# Altium schematic symbol library jlcpcb_2025_04_capacitors_basic.schlib: 88 symbols (part 2 of 4)
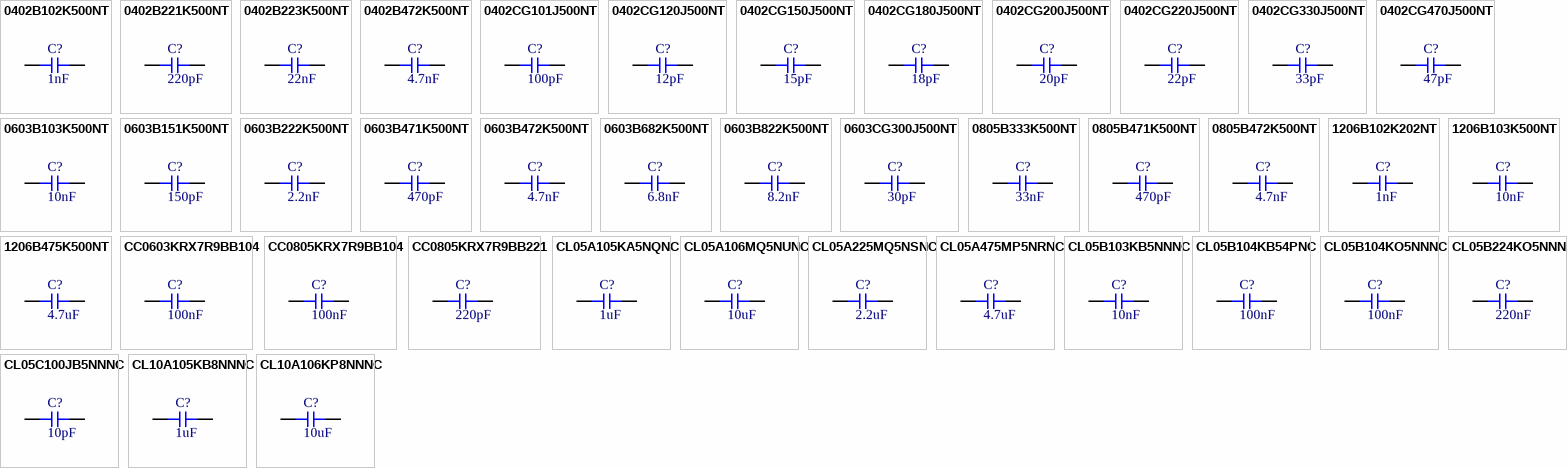
[diagram p3: symbols 0402B102K500NT to CL10A106KP8NNNC]

## CL05B224KO5NNNC
designator C?  Capacitance: 220nF  (hidden comment: *)
Capacitor, Ceramic (MLCC), 220nF, ±10%, 16V, X7R, ±10%, SMD 0402; Manufacturer: Samsung Electro-Mechanics; Manufacturer Part Number: CL05B224KO5NNNC; Temperature Rating: -55°C ~ 125°C; Capacitance @ 1V DC Bias: 229.732nF; Capacitance @ 1.2V DC Bias: 229.338nF; Capacitance @ 1.35V DC Bias: 228.985nF; Capacitance @ 1.5V DC Bias: 228.566nF; Capacitance @ 1.8V DC Bias: 227.476nF; Capacitance @ 2.5V DC Bias: 222.749nF; Capacitance @ 3.3V DC Bias: 215.025nF; Capacitance @ 3.7V DC Bias: 210.612nF; Capacitance @ 4.2V DC Bias: 204.867nF; Capacitance @ 5V DC Bias: 195.190nF; Capacitance @ 9V DC Bias: 144.998nF; Capacitance @ 12V DC Bias: 114.994nF; Capacitance @ 15V DC Bias: 89.389nF; Impedance (0V Bias) @ 100Hz: 8.15E+03Ω; Impedance (0V Bias) @ 500Hz: 1.66E+03Ω; Impedance (0V Bias) @ 1kHz: 835Ω; Impedance (0V Bias) @ 5kHz: 170Ω; Impedance (0V Bias) @ 10kHz: 85.4Ω; Impedance (0V Bias) @ 50kHz: 17.4Ω; Impedance (0V Bias) @ 100kHz: 8.74Ω; Impedance (0V Bias) @ 500kHz: 1.77Ω; Impedance (0V Bias) @ 1MHz: 0.89Ω; Impedance (0V Bias) @ 5MHz: 0.172Ω; Impedance (0V Bias) @ 10MHz: 0.074Ω; Impedance (0V Bias) @ 50MHz: 0.0718Ω; Impedance (0V Bias) @ 100MHz: 0.118Ω; Impedance (0V Bias) @ 500MHz: 0.465Ω; Impedance (0V Bias) @ 1GHz: 0.864Ω; Impedance (0V Bias) @ 2GHz: 2.05Ω; Impedance (0V Bias) @ 5GHz: 4.07Ω; Impedance (16V Bias) @ 100Hz: 2.13E+04Ω; Impedance (16V Bias) @ 500Hz: 4.31E+03Ω; Impedance (16V Bias) @ 1kHz: 2.17E+03Ω; Impedance (16V Bias) @ 5kHz: 438Ω; Impedance (16V Bias) @ 10kHz: 220Ω; Impedance (16V Bias) @ 50kHz: 44.5Ω; Impedance (16V Bias) @ 100kHz: 22.4Ω; Impedance (16V Bias) @ 500kHz: 4.51Ω; Impedance (16V Bias) @ 1MHz: 2.25Ω; Impedance (16V Bias) @ 5MHz: 0.489Ω; Impedance (16V Bias) @ 10MHz: 0.231Ω; Impedance (16V Bias) @ 50MHz: 0.0518Ω; Impedance (16V Bias) @ 100MHz: 0.12Ω; Impedance (16V Bias) @ 500MHz: 0.46Ω; Impedance (16V Bias) @ 1GHz: 0.861Ω; Impedance (16V Bias) @ 2GHz: 2.07Ω; Impedance (16V Bias) @ 5GHz: 4.08Ω; Package Size: 0402; JLCPCB Basic Part: Yes; JLCPCB Part Number: C16772; Supplier 1: LCSC; Category: Capacitors - MLCC; Supplier Part Number 1: C16772; Tolerance: ±10%; Voltage Rating: 16V; Temperature Coefficient: X7R; RoHS: Yes; ComponentLink1Description: Datasheet; ComponentLink1URL: https://wmsc.lcsc.com/wmsc/upload/file/pdf/v2/lcsc/2304140030_Samsung-Electro-Mechanics-CL05B224KO5NNNC_C16772.pdf; ComponentLink2Description: JLCPCB Part URL; ComponentLink2URL: https://jlcpcb.com/partdetail/C16772; ComponentLink3Description: LCSC Part URL; ComponentLink3URL: https://lcsc.com/product-detail/Multilayer-Ceramic-Capacitors-MLCC---SMD-SMT_Samsung-Electro-Mechanics-Samsung-Electro-Mechanics-CL05B224KO5NNNC-_C16772.html; ComponentLink4Description: Samsung Component Library; ComponentLink4URL: https://weblib.samsungsem.com/mlcc/mlcc-ec.do?partNumber=CL05B224KO5NNN
footprint CAP-0402 (0402 (1005M) Capacitor)
pins: 1, 2

## CL05C100JB5NNNC
designator C?  Capacitance: 10pF  (hidden comment: *)
Capacitor, Ceramic (MLCC), 10pF, ±5%, 50V, C0G, ±5%, SMD 0402; Manufacturer: Samsung Electro-Mechanics; Manufacturer Part Number: CL05C100JB5NNNC; Temperature Rating: -55°C ~ 125°C; Impedance (0V Bias) @ 100MHz: 159Ω; Impedance (0V Bias) @ 500MHz: 31Ω; Impedance (0V Bias) @ 1GHz: 14.2Ω; Impedance (0V Bias) @ 2GHz: 2.29Ω; Impedance (0V Bias) @ 5GHz: 4.97Ω; Package Size: 0402; JLCPCB Basic Part: Yes; JLCPCB Part Number: C32949; Supplier 1: LCSC; Category: Capacitors - MLCC; Supplier Part Number 1: C32949; Tolerance: ±5%; Voltage Rating: 50V; Temperature Coefficient: C0G; RoHS: Yes; ComponentLink1Description: Datasheet; ComponentLink1URL: https://wmsc.lcsc.com/wmsc/upload/file/pdf/v2/lcsc/2304140030_Samsung-Electro-Mechanics-CL05C100JB5NNNC_C32949.pdf; ComponentLink2Description: JLCPCB Part URL; ComponentLink2URL: https://jlcpcb.com/partdetail/C32949; ComponentLink3Description: LCSC Part URL; ComponentLink3URL: https://lcsc.com/product-detail/Multilayer-Ceramic-Capacitors-MLCC---SMD-SMT_Samsung-Electro-Mechanics-Samsung-Electro-Mechanics-CL05C100JB5NNNC_C32949.html; ComponentLink4Description: Samsung Component Library; ComponentLink4URL: https://weblib.samsungsem.com/mlcc/mlcc-ec.do?partNumber=CL05C100JB5NNN
footprint CAP-0402 (0402 (1005M) Capacitor)
pins: 1, 2

## CL10A105KB8NNNC
designator C?  Capacitance: 1uF  (hidden comment: *)
Capacitor, Ceramic (MLCC), 1uF, ±10%, 50V, X5R, ±10%, SMD 0603; Manufacturer: Samsung Electro-Mechanics; Manufacturer Part Number: CL10A105KB8NNNC; Temperature Rating: -55°C ~ 85°C; Capacitance @ 1V DC Bias: 1.054uF; Capacitance @ 1.2V DC Bias: 1.044uF; Capacitance @ 1.35V DC Bias: 1.035uF; Capacitance @ 1.5V DC Bias: 1.027uF; Capacitance @ 1.8V DC Bias: 1.007uF; Capacitance @ 2.5V DC Bias: 0.947uF; Capacitance @ 3.3V DC Bias: 0.865uF; Capacitance @ 3.7V DC Bias: 0.824uF; Capacitance @ 4.2V DC Bias: 0.773uF; Capacitance @ 5V DC Bias: 0.695uF; Capacitance @ 9V DC Bias: 0.410uF; Capacitance @ 12V DC Bias: 0.308uF; Capacitance @ 15V DC Bias: 0.231uF; Capacitance @ 24V DC Bias: 0.130uF; Capacitance @ 36V DC Bias: 0.080uF; Capacitance @ 48V DC Bias: 0.063uF; Impedance (0V Bias) @ 100Hz: 1.84E+03Ω; Impedance (0V Bias) @ 500Hz: 378Ω; Impedance (0V Bias) @ 1kHz: 191Ω; Impedance (0V Bias) @ 5kHz: 39.1Ω; Impedance (0V Bias) @ 10kHz: 19.8Ω; Impedance (0V Bias) @ 50kHz: 4.04Ω; Impedance (0V Bias) @ 100kHz: 2.04Ω; Impedance (0V Bias) @ 500kHz: 0.416Ω; Impedance (0V Bias) @ 1MHz: 0.208Ω; Impedance (0V Bias) @ 5MHz: 0.0293Ω; Impedance (0V Bias) @ 10MHz: 0.0159Ω; Impedance (0V Bias) @ 50MHz: 0.0822Ω; Impedance (0V Bias) @ 100MHz: 0.14Ω; Impedance (0V Bias) @ 500MHz: 0.54Ω; Impedance (0V Bias) @ 1GHz: 0.988Ω; Impedance (0V Bias) @ 2GHz: 2.38Ω; Impedance (0V Bias) @ 5GHz: 4.94Ω; Package Size: 0603; JLCPCB Basic Part: Yes; JLCPCB Part Number: C15849; Supplier 1: LCSC; Category: Capacitors - MLCC; Supplier Part Number 1: C15849; Tolerance: ±10%; Voltage Rating: 50V; Temperature Coefficient: X5R; RoHS: Yes; ComponentLink1Description: Datasheet; ComponentLink1URL: https://wmsc.lcsc.com/wmsc/upload/file/pdf/v2/lcsc/2304140030_Samsung-Electro-Mechanics-CL10A105KB8NNNC_C15849.pdf; ComponentLink2Description: JLCPCB Part URL; ComponentLink2URL: https://jlcpcb.com/partdetail/C15849; ComponentLink3Description: LCSC Part URL; ComponentLink3URL: https://lcsc.com/product-detail/Multilayer-Ceramic-Capacitors-MLCC---SMD-SMT_Samsung-Electro-Mechanics-Samsung-Electro-Mechanics-CL10A105KB8NNNC_C15849.html; ComponentLink4Description: Samsung Component Library; ComponentLink4URL: https://weblib.samsungsem.com/mlcc/mlcc-ec.do?partNumber=CL10A105KB8NNN
footprint CAP-0603 (0603 (1608M) Capacitor)
pins: 1, 2

## CL10A106KP8NNNC
designator C?  Capacitance: 10uF  (hidden comment: *)
Capacitor, Ceramic (MLCC), 10uF, ±10%, 10V, X5R, ±10%, SMD 0603; Manufacturer: Samsung Electro-Mechanics; Manufacturer Part Number: CL10A106KP8NNNC; Temperature Rating: -55°C ~ 85°C; Capacitance @ 1V DC Bias: 8.451uF; Capacitance @ 1.2V DC Bias: 8.084uF; Capacitance @ 1.35V DC Bias: 7.793uF; Capacitance @ 1.5V DC Bias: 7.497uF; Capacitance @ 1.8V DC Bias: 6.915uF; Capacitance @ 2.5V DC Bias: 5.691uF; Capacitance @ 3.3V DC Bias: 4.464uF; Capacitance @ 3.7V DC Bias: 3.996uF; Capacitance @ 4.2V DC Bias: 3.516uF; Capacitance @ 5V DC Bias: 2.897uF; Capacitance @ 9V DC Bias: 1.372uF; Impedance (0V Bias) @ 100Hz: 217Ω; Impedance (0V Bias) @ 500Hz: 44.6Ω; Impedance (0V Bias) @ 1kHz: 22.6Ω; Impedance (0V Bias) @ 5kHz: 4.64Ω; Impedance (0V Bias) @ 10kHz: 2.35Ω; Impedance (0V Bias) @ 50kHz: 0.481Ω; Impedance (0V Bias) @ 100kHz: 0.243Ω; Impedance (0V Bias) @ 500kHz: 0.0484Ω; Impedance (0V Bias) @ 1MHz: 0.0217Ω; Impedance (0V Bias) @ 5MHz: 0.0144Ω; Impedance (0V Bias) @ 10MHz: 0.0227Ω; Impedance (0V Bias) @ 50MHz: 0.0729Ω; Impedance (0V Bias) @ 100MHz: 0.123Ω; Impedance (0V Bias) @ 500MHz: 0.439Ω; Impedance (0V Bias) @ 1GHz: 0.788Ω; Impedance (0V Bias) @ 2GHz: 1.8Ω; Impedance (0V Bias) @ 5GHz: 3.33Ω; Impedance (10V Bias) @ 100Hz: 1.6E+03Ω; Impedance (10V Bias) @ 500Hz: 323Ω; Impedance (10V Bias) @ 1kHz: 162Ω; Impedance (10V Bias) @ 5kHz: 32.7Ω; Impedance (10V Bias) @ 10kHz: 16.4Ω; Impedance (10V Bias) @ 50kHz: 3.3Ω; Impedance (10V Bias) @ 100kHz: 1.66Ω; Impedance (10V Bias) @ 500kHz: 0.331Ω; Impedance (10V Bias) @ 1MHz: 0.161Ω; Impedance (10V Bias) @ 5MHz: 0.0215Ω; Impedance (10V Bias) @ 10MHz: 0.0228Ω; Impedance (10V Bias) @ 50MHz: 0.0759Ω; Impedance (10V Bias) @ 500MHz: 0.443Ω; Impedance (10V Bias) @ 1GHz: 0.786Ω; Impedance (10V Bias) @ 2GHz: 1.77Ω; Impedance (10V Bias) @ 5GHz: 3.28Ω; Package Size: 0603; JLCPCB Basic Part: Yes; JLCPCB Part Number: C19702; Supplier 1: LCSC; Category: Capacitors - MLCC; Supplier Part Number 1: C19702; Tolerance: ±10%; Voltage Rating: 10V; Temperature Coefficient: X5R; RoHS: Yes; ComponentLink1Description: Datasheet; ComponentLink1URL: https://wmsc.lcsc.com/wmsc/upload/file/pdf/v2/lcsc/2304140030_Samsung-Electro-Mechanics-CL10A106KP8NNNC_C19702.pdf; ComponentLink2Description: JLCPCB Part URL; ComponentLink2URL: https://jlcpcb.com/partdetail/C19702; ComponentLink3Description: LCSC Part URL; ComponentLink3URL: https://lcsc.com/product-detail/Multilayer-Ceramic-Capacitors-MLCC---SMD-SMT_Samsung-Electro-Mechanics-Samsung-Electro-Mechanics-CL10A106KP8NNNC_C19702.html; ComponentLink4Description: Samsung Component Library; ComponentLink4URL: https://weblib.samsungsem.com/mlcc/mlcc-ec.do?partNumber=CL10A106KP8NNN; Impedance (10V Bias) @ 100MHz: 0.123Ω
footprint CAP-0603 (0603 (1608M) Capacitor)
pins: 1, 2

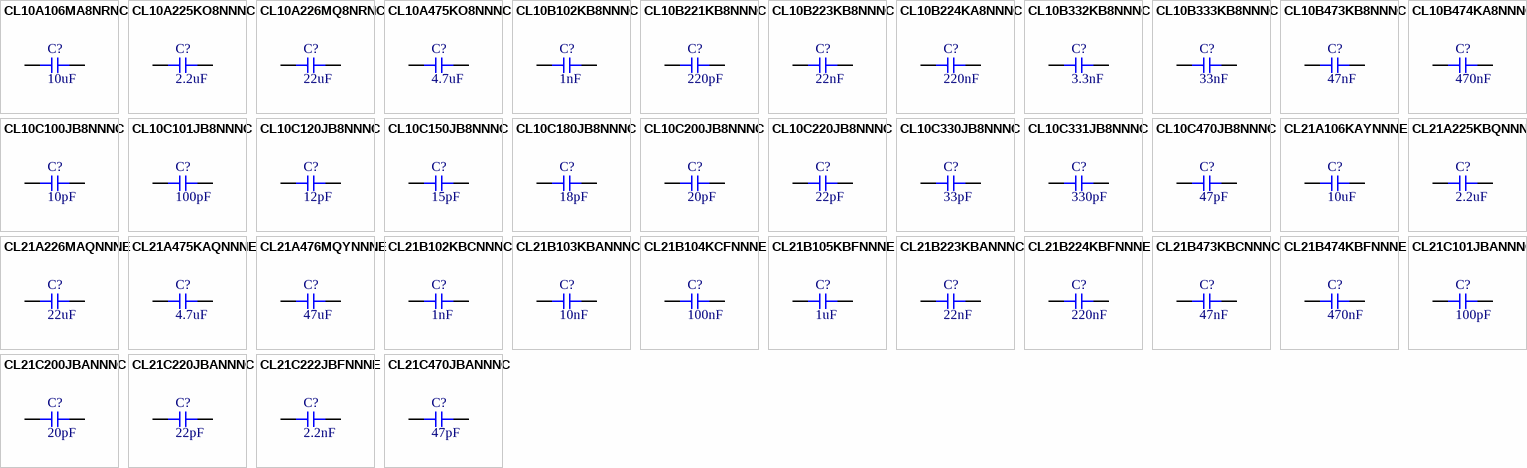
[diagram p1: symbols CL10A106MA8NRNC to CL21C470JBANNNC]

## CL10A106MA8NRNC
designator C?  Capacitance: 10uF  (hidden comment: *)
Capacitor, Ceramic (MLCC), 10uF, ±20%, 25V, X5R, ±20%, SMD 0603; Manufacturer: Samsung Electro-Mechanics; Manufacturer Part Number: CL10A106MA8NRNC; Temperature Rating: -55°C ~ 85°C; Capacitance @ 1V DC Bias: 8.964uF; Capacitance @ 1.2V DC Bias: 8.768uF; Capacitance @ 1.35V DC Bias: 8.609uF; Capacitance @ 1.5V DC Bias: 8.444uF; Capacitance @ 1.8V DC Bias: 8.099uF; Capacitance @ 2.5V DC Bias: 7.202uF; Capacitance @ 3.3V DC Bias: 6.143uF; Capacitance @ 3.7V DC Bias: 5.664uF; Capacitance @ 4.2V DC Bias: 5.128uF; Capacitance @ 5V DC Bias: 4.387uF; Capacitance @ 9V DC Bias: 2.251uF; Capacitance @ 12V DC Bias: 1.644uF; Capacitance @ 15V DC Bias: 1.206uF; Capacitance @ 24V DC Bias: 0.690uF; Impedance (0V Bias) @ 100Hz: 205Ω; Impedance (0V Bias) @ 500Hz: 41.9Ω; Impedance (0V Bias) @ 1kHz: 21.1Ω; Impedance (0V Bias) @ 5kHz: 4.31Ω; Impedance (0V Bias) @ 10kHz: 2.17Ω; Impedance (0V Bias) @ 50kHz: 0.441Ω; Impedance (0V Bias) @ 100kHz: 0.222Ω; Impedance (0V Bias) @ 500kHz: 0.0432Ω; Impedance (0V Bias) @ 1MHz: 0.0185Ω; Impedance (0V Bias) @ 5MHz: 0.0154Ω; Impedance (0V Bias) @ 10MHz: 0.0225Ω; Impedance (0V Bias) @ 50MHz: 0.0746Ω; Impedance (0V Bias) @ 100MHz: 0.129Ω; Impedance (0V Bias) @ 500MHz: 0.513Ω; Impedance (0V Bias) @ 1GHz: 0.937Ω; Impedance (0V Bias) @ 2GHz: 2.28Ω; Impedance (0V Bias) @ 5GHz: 4.61Ω; Impedance (25V Bias) @ 100Hz: 2.27E+03Ω; Impedance (25V Bias) @ 500Hz: 456Ω; Impedance (25V Bias) @ 1kHz: 229Ω; Impedance (25V Bias) @ 5kHz: 46Ω; Impedance (25V Bias) @ 10kHz: 23.1Ω; Impedance (25V Bias) @ 50kHz: 4.64Ω; Impedance (25V Bias) @ 100kHz: 2.32Ω; Impedance (25V Bias) @ 500kHz: 0.461Ω; Impedance (25V Bias) @ 1MHz: 0.223Ω; Impedance (25V Bias) @ 5MHz: 0.039Ω; Impedance (25V Bias) @ 10MHz: 0.0151Ω; Impedance (25V Bias) @ 50MHz: 0.0797Ω; Impedance (25V Bias) @ 100MHz: 0.132Ω; Impedance (25V Bias) @ 500MHz: 0.527Ω; Impedance (25V Bias) @ 1GHz: 0.956Ω; Impedance (25V Bias) @ 2GHz: 2.27Ω; Impedance (25V Bias) @ 5GHz: 4.57Ω; Package Size: 0603; JLCPCB Basic Part: Yes; JLCPCB Part Number: C96446; Supplier 1: LCSC; Category: Capacitors - MLCC; Supplier Part Number 1: C96446; Tolerance: ±20%; Voltage Rating: 25V; Temperature Coefficient: X5R; RoHS: Yes; ComponentLink1Description: Datasheet; ComponentLink1URL: https://wmsc.lcsc.com/wmsc/upload/file/pdf/v2/lcsc/2304140030_Samsung-Electro-Mechanics-CL10A106MA8NRNC_C96446.pdf; ComponentLink2Description: JLCPCB Part URL; ComponentLink2URL: https://jlcpcb.com/partdetail/C96446; ComponentLink3Description: LCSC Part URL; ComponentLink3URL: https://lcsc.com/product-detail/Multilayer-Ceramic-Capacitors-MLCC---SMD-SMT_Samsung-Electro-Mechanics-Samsung-Electro-Mechanics-CL10A106MA8NRNC_C96446.html; ComponentLink4Description: Samsung Component Library; ComponentLink4URL: https://weblib.samsungsem.com/mlcc/mlcc-ec.do?partNumber=CL10A106MA8NRN
footprint CAP-0603 (0603 (1608M) Capacitor)
pins: 1, 2

## CL10A225KO8NNNC
designator C?  Capacitance: 2.2uF  (hidden comment: *)
Capacitor, Ceramic (MLCC), 2.2uF, ±10%, 16V, X5R, ±10%, SMD 0603; Manufacturer: Samsung Electro-Mechanics; Manufacturer Part Number: CL10A225KO8NNNC; Temperature Rating: -55°C ~ 85°C; Capacitance @ 1V DC Bias: 2.290uF; Capacitance @ 1.2V DC Bias: 2.232uF; Capacitance @ 1.35V DC Bias: 2.184uF; Capacitance @ 1.5V DC Bias: 2.135uF; Capacitance @ 1.8V DC Bias: 2.033uF; Capacitance @ 2.5V DC Bias: 1.780uF; Capacitance @ 3.3V DC Bias: 1.490uF; Capacitance @ 3.7V DC Bias: 1.365uF; Capacitance @ 4.2V DC Bias: 1.230uF; Capacitance @ 5V DC Bias: 1.046uF; Capacitance @ 9V DC Bias: 0.530uF; Capacitance @ 12V DC Bias: 0.397uF; Capacitance @ 15V DC Bias: 0.295uF; Impedance (0V Bias) @ 100Hz: 748Ω; Impedance (0V Bias) @ 500Hz: 156Ω; Impedance (0V Bias) @ 1kHz: 79.1Ω; Impedance (0V Bias) @ 5kHz: 16.4Ω; Impedance (0V Bias) @ 10kHz: 8.3Ω; Impedance (0V Bias) @ 50kHz: 1.7Ω; Impedance (0V Bias) @ 100kHz: 0.86Ω; Impedance (0V Bias) @ 500kHz: 0.176Ω; Impedance (0V Bias) @ 1MHz: 0.0866Ω; Impedance (0V Bias) @ 5MHz: 0.00777Ω; Impedance (0V Bias) @ 10MHz: 0.0257Ω; Impedance (0V Bias) @ 50MHz: 0.0946Ω; Impedance (0V Bias) @ 100MHz: 0.166Ω; Impedance (0V Bias) @ 500MHz: 0.651Ω; Impedance (0V Bias) @ 1GHz: 1.17Ω; Impedance (0V Bias) @ 2GHz: 2.75Ω; Impedance (0V Bias) @ 5GHz: 5.64Ω; Impedance (16V Bias) @ 100Hz: 5.28E+03Ω; Impedance (16V Bias) @ 500Hz: 1.07E+03Ω; Impedance (16V Bias) @ 1kHz: 539Ω; Impedance (16V Bias) @ 5kHz: 109Ω; Impedance (16V Bias) @ 10kHz: 54.9Ω; Impedance (16V Bias) @ 50kHz: 11.1Ω; Impedance (16V Bias) @ 100kHz: 5.57Ω; Impedance (16V Bias) @ 500kHz: 1.12Ω; Impedance (16V Bias) @ 1MHz: 0.552Ω; Impedance (16V Bias) @ 5MHz: 0.113Ω; Impedance (16V Bias) @ 10MHz: 0.036Ω; Impedance (16V Bias) @ 50MHz: 0.0879Ω; Impedance (16V Bias) @ 100MHz: 0.169Ω; Impedance (16V Bias) @ 500MHz: 0.683Ω; Impedance (16V Bias) @ 1GHz: 1.23Ω; Impedance (16V Bias) @ 2GHz: 2.87Ω; Impedance (16V Bias) @ 5GHz: 5.6Ω; Package Size: 0603; JLCPCB Basic Part: Yes; JLCPCB Part Number: C23630; Supplier 1: LCSC; Category: Capacitors - MLCC; Supplier Part Number 1: C23630; Tolerance: ±10%; Voltage Rating: 16V; Temperature Coefficient: X5R; RoHS: Yes; ComponentLink1Description: Datasheet; ComponentLink1URL: https://wmsc.lcsc.com/wmsc/upload/file/pdf/v2/lcsc/2304140030_Samsung-Electro-Mechanics-CL10A225KO8NNNC_C23630.pdf; ComponentLink2Description: JLCPCB Part URL; ComponentLink2URL: https://jlcpcb.com/partdetail/C23630; ComponentLink3Description: LCSC Part URL; ComponentLink3URL: https://lcsc.com/product-detail/Multilayer-Ceramic-Capacitors-MLCC---SMD-SMT_Samsung-Electro-Mechanics-Samsung-Electro-Mechanics-CL10A225KO8NNNC_C23630.html; ComponentLink4Description: Samsung Component Library; ComponentLink4URL: https://weblib.samsungsem.com/mlcc/mlcc-ec.do?partNumber=CL10A225KO8NNN
footprint CAP-0603 (0603 (1608M) Capacitor)
pins: 1, 2

## CL10A226MQ8NRNC
designator C?  Capacitance: 22uF  (hidden comment: *)
Capacitor, Ceramic (MLCC), 22uF, ±20%, 6.3V, X5R, ±20%, SMD 0603; Manufacturer: Samsung Electro-Mechanics; Manufacturer Part Number: CL10A226MQ8NRNC; Temperature Rating: -55°C ~ 85°C; Capacitance @ 1V DC Bias: 17.820uF; Capacitance @ 1.2V DC Bias: 16.916uF; Capacitance @ 1.35V DC Bias: 16.197uF; Capacitance @ 1.5V DC Bias: 15.472uF; Capacitance @ 1.8V DC Bias: 14.074uF; Capacitance @ 2.5V DC Bias: 11.369uF; Capacitance @ 3.3V DC Bias: 8.834uF; Capacitance @ 3.7V DC Bias: 7.897uF; Capacitance @ 4.2V DC Bias: 6.952uF; Capacitance @ 5V DC Bias: 5.741uF; Impedance (0V Bias) @ 100Hz: 100Ω; Impedance (0V Bias) @ 500Hz: 20.7Ω; Impedance (0V Bias) @ 1kHz: 10.5Ω; Impedance (0V Bias) @ 5kHz: 2.16Ω; Impedance (0V Bias) @ 10kHz: 1.09Ω; Impedance (0V Bias) @ 50kHz: 0.224Ω; Impedance (0V Bias) @ 100kHz: 0.113Ω; Impedance (0V Bias) @ 500kHz: 0.0212Ω; Impedance (0V Bias) @ 1MHz: 0.00751Ω; Impedance (0V Bias) @ 5MHz: 0.0137Ω; Impedance (0V Bias) @ 10MHz: 0.0217Ω; Impedance (0V Bias) @ 50MHz: 0.0716Ω; Impedance (0V Bias) @ 100MHz: 0.12Ω; Impedance (0V Bias) @ 500MHz: 0.428Ω; Impedance (0V Bias) @ 1GHz: 0.751Ω; Impedance (0V Bias) @ 2GHz: 1.72Ω; Impedance (0V Bias) @ 5GHz: 3.43Ω; Package Size: 0603; JLCPCB Basic Part: Yes; JLCPCB Part Number: C59461; Supplier 1: LCSC; Category: Capacitors - MLCC; Supplier Part Number 1: C59461; Tolerance: ±20%; Voltage Rating: 6.3V; Temperature Coefficient: X5R; RoHS: Yes; ComponentLink1Description: Datasheet; ComponentLink1URL: https://wmsc.lcsc.com/wmsc/upload/file/pdf/v2/lcsc/2304140030_Samsung-Electro-Mechanics-CL10A226MQ8NRNC_C59461.pdf; ComponentLink2Description: JLCPCB Part URL; ComponentLink2URL: https://jlcpcb.com/partdetail/C59461; ComponentLink3Description: LCSC Part URL; ComponentLink3URL: https://lcsc.com/product-detail/Multilayer-Ceramic-Capacitors-MLCC---SMD-SMT_Samsung-Electro-Mechanics-Samsung-Electro-Mechanics-CL10A226MQ8NRNC_C59461.html; ComponentLink4Description: Samsung Component Library; ComponentLink4URL: https://weblib.samsungsem.com/mlcc/mlcc-ec.do?partNumber=CL10A226MQ8NRN
footprint CAP-0603 (0603 (1608M) Capacitor)
pins: 1, 2

## CL10A475KO8NNNC
designator C?  Capacitance: 4.7uF  (hidden comment: *)
Capacitor, Ceramic (MLCC), 4.7uF, ±10%, 16V, X5R, ±10%, SMD 0603; Manufacturer: Samsung Electro-Mechanics; Manufacturer Part Number: CL10A475KO8NNNC; Temperature Rating: -55°C ~ 85°C; Capacitance @ 1V DC Bias: 4.097uF; Capacitance @ 1.2V DC Bias: 4.030uF; Capacitance @ 1.35V DC Bias: 3.972uF; Capacitance @ 1.5V DC Bias: 3.908uF; Capacitance @ 1.8V DC Bias: 3.769uF; Capacitance @ 2.5V DC Bias: 3.406uF; Capacitance @ 3.3V DC Bias: 2.969uF; Capacitance @ 3.7V DC Bias: 2.760uF; Capacitance @ 4.2V DC Bias: 2.508uF; Capacitance @ 5V DC Bias: 2.138uF; Capacitance @ 9V DC Bias: 1.155uF; Capacitance @ 12V DC Bias: 0.873uF; Capacitance @ 15V DC Bias: 0.647uF; Impedance (0V Bias) @ 100Hz: 437Ω; Impedance (0V Bias) @ 500Hz: 90.6Ω; Impedance (0V Bias) @ 1kHz: 46Ω; Impedance (0V Bias) @ 5kHz: 9.51Ω; Impedance (0V Bias) @ 10kHz: 4.83Ω; Impedance (0V Bias) @ 50kHz: 0.996Ω; Impedance (0V Bias) @ 100kHz: 0.505Ω; Impedance (0V Bias) @ 500kHz: 0.104Ω; Impedance (0V Bias) @ 1MHz: 0.05Ω; Impedance (0V Bias) @ 5MHz: 0.011Ω; Impedance (0V Bias) @ 10MHz: 0.0248Ω; Impedance (0V Bias) @ 50MHz: 0.0811Ω; Impedance (0V Bias) @ 100MHz: 0.141Ω; Impedance (0V Bias) @ 500MHz: 0.57Ω; Impedance (0V Bias) @ 1GHz: 1.02Ω; Impedance (0V Bias) @ 2GHz: 2.37Ω; Impedance (0V Bias) @ 5GHz: 4.65Ω; Impedance (16V Bias) @ 100Hz: 3.74E+03Ω; Impedance (16V Bias) @ 500Hz: 758Ω; Impedance (16V Bias) @ 1kHz: 381Ω; Impedance (16V Bias) @ 5kHz: 77.1Ω; Impedance (16V Bias) @ 10kHz: 38.7Ω; Impedance (16V Bias) @ 50kHz: 7.82Ω; Impedance (16V Bias) @ 100kHz: 3.93Ω; Impedance (16V Bias) @ 500kHz: 0.79Ω; Impedance (16V Bias) @ 1MHz: 0.386Ω; Impedance (16V Bias) @ 5MHz: 0.077Ω; Impedance (16V Bias) @ 10MHz: 0.0173Ω; Impedance (16V Bias) @ 50MHz: 0.0836Ω; Impedance (16V Bias) @ 100MHz: 0.142Ω; Impedance (16V Bias) @ 500MHz: 0.585Ω; Impedance (16V Bias) @ 1GHz: 1.06Ω; Impedance (16V Bias) @ 2GHz: 2.36Ω; Impedance (16V Bias) @ 5GHz: 4.63Ω; Package Size: 0603; JLCPCB Basic Part: Yes; JLCPCB Part Number: C19666; Supplier 1: LCSC; Category: Capacitors - MLCC; Supplier Part Number 1: C19666; Tolerance: ±10%; Voltage Rating: 16V; Temperature Coefficient: X5R; RoHS: Yes; ComponentLink1Description: Datasheet; ComponentLink1URL: https://wmsc.lcsc.com/wmsc/upload/file/pdf/v2/lcsc/2304140030_Samsung-Electro-Mechanics-CL10A475KO8NNNC_C19666.pdf; ComponentLink2Description: JLCPCB Part URL; ComponentLink2URL: https://jlcpcb.com/partdetail/C19666; ComponentLink3Description: LCSC Part URL; ComponentLink3URL: https://lcsc.com/product-detail/Multilayer-Ceramic-Capacitors-MLCC---SMD-SMT_Samsung-Electro-Mechanics-Samsung-Electro-Mechanics-CL10A475KO8NNNC_C19666.html; ComponentLink4Description: Samsung Component Library; ComponentLink4URL: https://weblib.samsungsem.com/mlcc/mlcc-ec.do?partNumber=CL10A475KO8NNN
footprint CAP-0603 (0603 (1608M) Capacitor)
pins: 1, 2

## CL10B102KB8NNNC
designator C?  Capacitance: 1nF  (hidden comment: *)
Capacitor, Ceramic (MLCC), 1nF, ±10%, 50V, X7R, ±10%, SMD 0603; Manufacturer: Samsung Electro-Mechanics; Manufacturer Part Number: CL10B102KB8NNNC; Temperature Rating: -55°C ~ 125°C; Capacitance @ 1V DC Bias: 1.039nF; Capacitance @ 1.2V DC Bias: 1.040nF; Capacitance @ 1.5V DC Bias: 1.041nF; Capacitance @ 2.5V DC Bias: 1.043nF; Capacitance @ 3.3V DC Bias: 1.044nF; Capacitance @ 3.7V DC Bias: 1.045nF; Capacitance @ 15V DC Bias: 1.036nF; Capacitance @ 24V DC Bias: 1.008nF; Capacitance @ 36V DC Bias: 0.949nF; Capacitance @ 48V DC Bias: 0.867nF; Impedance (0V Bias) @ 100Hz: 1.54E+06Ω; Impedance (0V Bias) @ 500Hz: 3.12E+05Ω; Impedance (0V Bias) @ 1kHz: 1.57E+05Ω; Impedance (0V Bias) @ 5kHz: 3.19E+04Ω; Impedance (0V Bias) @ 10kHz: 1.61E+04Ω; Impedance (0V Bias) @ 50kHz: 3.26E+03Ω; Impedance (0V Bias) @ 100kHz: 1.64E+03Ω; Impedance (0V Bias) @ 500kHz: 333Ω; Impedance (0V Bias) @ 1MHz: 168Ω; Impedance (0V Bias) @ 5MHz: 34Ω; Impedance (0V Bias) @ 10MHz: 17.2Ω; Impedance (0V Bias) @ 50MHz: 3.47Ω; Impedance (0V Bias) @ 100MHz: 1.61Ω; Impedance (0V Bias) @ 500MHz: 0.947Ω; Impedance (0V Bias) @ 1GHz: 1.75Ω; Impedance (0V Bias) @ 2GHz: 4.14Ω; Impedance (0V Bias) @ 5GHz: 8.98Ω; Package Size: 0603; JLCPCB Basic Part: Yes; JLCPCB Part Number: C1588; Supplier 1: LCSC; Category: Capacitors - MLCC; Supplier Part Number 1: C1588; Tolerance: ±10%; Voltage Rating: 50V; Temperature Coefficient: X7R; RoHS: Yes; ComponentLink1Description: Datasheet; ComponentLink1URL: https://wmsc.lcsc.com/wmsc/upload/file/pdf/v2/lcsc/2304140030_Samsung-Electro-Mechanics-CL10B102KB8NNNC_C1588.pdf; ComponentLink2Description: JLCPCB Part URL; ComponentLink2URL: https://jlcpcb.com/partdetail/C1588; ComponentLink3Description: LCSC Part URL; ComponentLink3URL: https://lcsc.com/product-detail/Multilayer-Ceramic-Capacitors-MLCC---SMD-SMT_Samsung-Electro-Mechanics-Samsung-Electro-Mechanics-CL10B102KB8NNNC_C1588.html; ComponentLink4Description: Samsung Component Library; ComponentLink4URL: https://weblib.samsungsem.com/mlcc/mlcc-ec.do?partNumber=CL10B102KB8NNN; Capacitance @ 1.35V DC Bias: 1.040nF; Capacitance @ 1.8V DC Bias: 1.041nF; Capacitance @ 4.2V DC Bias: 1.045nF; Capacitance @ 5V DC Bias: 1.045nF; Capacitance @ 9V DC Bias: 1.044nF; Capacitance @ 12V DC Bias: 1.041nF
footprint CAP-0603 (0603 (1608M) Capacitor)
pins: 1, 2

## CL10B221KB8NNNC
designator C?  Capacitance: 220pF  (hidden comment: *)
Capacitor, Ceramic (MLCC), 220pF, ±10%, 50V, X7R, ±10%, SMD 0603; Manufacturer: Samsung Electro-Mechanics; Manufacturer Part Number: CL10B221KB8NNNC; Temperature Rating: -55°C ~ 125°C; Capacitance @ 1V DC Bias: 2005.900pF; Capacitance @ 1.2V DC Bias: 2008.605pF; Capacitance @ 1.35V DC Bias: 2010.942pF; Capacitance @ 1.5V DC Bias: 2013.317pF; Capacitance @ 1.8V DC Bias: 2017.780pF; Capacitance @ 2.5V DC Bias: 2023.887pF; Capacitance @ 3.3V DC Bias: 2027.147pF; Capacitance @ 3.7V DC Bias: 2028.067pF; Capacitance @ 4.2V DC Bias: 2028.924pF; Capacitance @ 5V DC Bias: 2029.600pF; Capacitance @ 9V DC Bias: 2026.648pF; Capacitance @ 12V DC Bias: 2018.585pF; Capacitance @ 15V DC Bias: 2008.508pF; Capacitance @ 24V DC Bias: 1962.793pF; Capacitance @ 36V DC Bias: 1875.648pF; Capacitance @ 48V DC Bias: 1771.037pF; Impedance (0V Bias) @ 100Hz: 6.54E+06Ω; Impedance (0V Bias) @ 500Hz: 1.34E+06Ω; Impedance (0V Bias) @ 1kHz: 6.74E+05Ω; Impedance (0V Bias) @ 5kHz: 1.38E+05Ω; Impedance (0V Bias) @ 10kHz: 6.94E+04Ω; Impedance (0V Bias) @ 50kHz: 1.42E+04Ω; Impedance (0V Bias) @ 100kHz: 7.14E+03Ω; Impedance (0V Bias) @ 500kHz: 1.45E+03Ω; Impedance (0V Bias) @ 1MHz: 733Ω; Impedance (0V Bias) @ 5MHz: 150Ω; Impedance (0V Bias) @ 10MHz: 75.9Ω; Impedance (0V Bias) @ 50MHz: 15.7Ω; Impedance (0V Bias) @ 100MHz: 7.88Ω; Impedance (0V Bias) @ 500MHz: 0.843Ω; Impedance (0V Bias) @ 1GHz: 2.62Ω; Impedance (0V Bias) @ 2GHz: 7.84Ω; Impedance (0V Bias) @ 5GHz: 13.8Ω; Package Size: 0603; JLCPCB Basic Part: Yes; JLCPCB Part Number: C1603; Supplier 1: LCSC; Category: Capacitors - MLCC; Supplier Part Number 1: C1603; Tolerance: ±10%; Voltage Rating: 50V; Temperature Coefficient: X7R; RoHS: Yes; ComponentLink1Description: Datasheet; ComponentLink1URL: https://wmsc.lcsc.com/wmsc/upload/file/pdf/v2/lcsc/2304140030_Samsung-Electro-Mechanics-CL10B221KB8NNNC_C1603.pdf; ComponentLink2Description: JLCPCB Part URL; ComponentLink2URL: https://jlcpcb.com/partdetail/C1603; ComponentLink3Description: LCSC Part URL; ComponentLink3URL: https://lcsc.com/product-detail/Multilayer-Ceramic-Capacitors-MLCC---SMD-SMT_Samsung-Electro-Mechanics-Samsung-Electro-Mechanics-CL10B221KB8NNNC_C1603.html; ComponentLink4Description: Samsung Component Library; ComponentLink4URL: https://weblib.samsungsem.com/mlcc/mlcc-ec.do?partNumber=CL10B221KB8NNN
footprint CAP-0603 (0603 (1608M) Capacitor)
pins: 1, 2

## CL10B223KB8NNNC
designator C?  Capacitance: 22nF  (hidden comment: *)
Capacitor, Ceramic (MLCC), 22nF, ±10%, 50V, X7R, ±10%, SMD 0603; Manufacturer: Samsung Electro-Mechanics; Manufacturer Part Number: CL10B223KB8NNNC; Temperature Rating: -55°C ~ 125°C; Capacitance @ 1V DC Bias: 22.573nF; Capacitance @ 1.2V DC Bias: 22.636nF; Capacitance @ 1.35V DC Bias: 22.685nF; Capacitance @ 1.5V DC Bias: 22.733nF; Capacitance @ 1.8V DC Bias: 22.823nF; Capacitance @ 2.5V DC Bias: 22.946nF; Capacitance @ 3.3V DC Bias: 23.004nF; Capacitance @ 3.7V DC Bias: 23.013nF; Capacitance @ 4.2V DC Bias: 23.008nF; Capacitance @ 5V DC Bias: 22.974nF; Capacitance @ 9V DC Bias: 22.838nF; Capacitance @ 12V DC Bias: 22.650nF; Capacitance @ 15V DC Bias: 22.427nF; Capacitance @ 24V DC Bias: 21.437nF; Capacitance @ 36V DC Bias: 19.554nF; Capacitance @ 48V DC Bias: 17.020nF; Impedance (0V Bias) @ 100Hz: 7.5E+04Ω; Impedance (0V Bias) @ 500Hz: 1.52E+04Ω; Impedance (0V Bias) @ 1kHz: 7.64E+03Ω; Impedance (0V Bias) @ 5kHz: 1.55E+03Ω; Impedance (0V Bias) @ 10kHz: 779Ω; Impedance (0V Bias) @ 50kHz: 158Ω; Impedance (0V Bias) @ 100kHz: 79.4Ω; Impedance (0V Bias) @ 500kHz: 16.1Ω; Impedance (0V Bias) @ 1MHz: 8.09Ω; Impedance (0V Bias) @ 5MHz: 1.63Ω; Impedance (0V Bias) @ 10MHz: 0.801Ω; Impedance (0V Bias) @ 50MHz: 0.0651Ω; Impedance (0V Bias) @ 100MHz: 0.206Ω; Impedance (0V Bias) @ 500MHz: 0.865Ω; Impedance (0V Bias) @ 1GHz: 1.65Ω; Impedance (0V Bias) @ 2GHz: 4.18Ω; Impedance (0V Bias) @ 5GHz: 9.53Ω; Package Size: 0603; JLCPCB Basic Part: Yes; JLCPCB Part Number: C21122; Supplier 1: LCSC; Category: Capacitors - MLCC; Supplier Part Number 1: C21122; Tolerance: ±10%; Voltage Rating: 50V; Temperature Coefficient: X7R; RoHS: Yes; ComponentLink1Description: Datasheet; ComponentLink1URL: https://wmsc.lcsc.com/wmsc/upload/file/pdf/v2/lcsc/2304140030_Samsung-Electro-Mechanics-CL10B223KB8NNNC_C21122.pdf; ComponentLink2Description: JLCPCB Part URL; ComponentLink2URL: https://jlcpcb.com/partdetail/C21122; ComponentLink3Description: LCSC Part URL; ComponentLink3URL: https://lcsc.com/product-detail/Multilayer-Ceramic-Capacitors-MLCC---SMD-SMT_Samsung-Electro-Mechanics-Samsung-Electro-Mechanics-CL10B223KB8NNNC_C21122.html; ComponentLink4Description: Samsung Component Library; ComponentLink4URL: https://weblib.samsungsem.com/mlcc/mlcc-ec.do?partNumber=CL10B223KB8NNN
footprint CAP-0603 (0603 (1608M) Capacitor)
pins: 1, 2

## CL10B224KA8NNNC
designator C?  Capacitance: 220nF  (hidden comment: *)
Capacitor, Ceramic (MLCC), 220nF, ±10%, 25V, X7R, ±10%, SMD 0603; Manufacturer: Samsung Electro-Mechanics; Manufacturer Part Number: CL10B224KA8NNNC; Temperature Rating: -55°C ~ 125°C; Capacitance @ 1V DC Bias: 214.166nF; Capacitance @ 1.2V DC Bias: 214.149nF; Capacitance @ 1.35V DC Bias: 214.098nF; Capacitance @ 1.5V DC Bias: 214.017nF; Capacitance @ 1.8V DC Bias: 213.754nF; Capacitance @ 2.5V DC Bias: 212.583nF; Capacitance @ 3.3V DC Bias: 210.552nF; Capacitance @ 3.7V DC Bias: 209.339nF; Capacitance @ 4.2V DC Bias: 207.706nF; Capacitance @ 5V DC Bias: 204.830nF; Capacitance @ 9V DC Bias: 188.295nF; Capacitance @ 12V DC Bias: 174.297nF; Capacitance @ 15V DC Bias: 160.282nF; Capacitance @ 24V DC Bias: 121.097nF; Impedance (0V Bias) @ 100Hz: 7.47E+03Ω; Impedance (0V Bias) @ 500Hz: 1.52E+03Ω; Impedance (0V Bias) @ 1kHz: 764Ω; Impedance (0V Bias) @ 5kHz: 155Ω; Impedance (0V Bias) @ 10kHz: 77.8Ω; Impedance (0V Bias) @ 50kHz: 15.8Ω; Impedance (0V Bias) @ 100kHz: 7.94Ω; Impedance (0V Bias) @ 500kHz: 1.61Ω; Impedance (0V Bias) @ 1MHz: 0.807Ω; Impedance (0V Bias) @ 5MHz: 0.15Ω; Impedance (0V Bias) @ 10MHz: 0.0545Ω; Impedance (0V Bias) @ 50MHz: 0.0963Ω; Impedance (0V Bias) @ 100MHz: 0.167Ω; Impedance (0V Bias) @ 500MHz: 0.676Ω; Impedance (0V Bias) @ 1GHz: 1.25Ω; Impedance (0V Bias) @ 2GHz: 3.05Ω; Impedance (0V Bias) @ 5GHz: 6.58Ω; Impedance (25V Bias) @ 100Hz: 1.33E+04Ω; Impedance (25V Bias) @ 500Hz: 2.69E+03Ω; Impedance (25V Bias) @ 1kHz: 1.35E+03Ω; Impedance (25V Bias) @ 5kHz: 274Ω; Impedance (25V Bias) @ 10kHz: 138Ω; Impedance (25V Bias) @ 50kHz: 27.9Ω; Impedance (25V Bias) @ 100kHz: 14Ω; Impedance (25V Bias) @ 500kHz: 2.83Ω; Impedance (25V Bias) @ 1MHz: 1.4Ω; Impedance (25V Bias) @ 5MHz: 0.297Ω; Impedance (25V Bias) @ 10MHz: 0.124Ω; Impedance (25V Bias) @ 50MHz: 0.11Ω; Impedance (25V Bias) @ 100MHz: 0.168Ω; Impedance (25V Bias) @ 2GHz: 3.02Ω; Package Size: 0603; JLCPCB Basic Part: Yes; JLCPCB Part Number: C21120; Supplier 1: LCSC; Category: Capacitors - MLCC; Supplier Part Number 1: C21120; Tolerance: ±10%; Voltage Rating: 25V; Temperature Coefficient: X7R; RoHS: Yes; ComponentLink1Description: Datasheet; ComponentLink1URL: https://wmsc.lcsc.com/wmsc/upload/file/pdf/v2/lcsc/2304140030_Samsung-Electro-Mechanics-CL10B224KA8NNNC_C21120.pdf; ComponentLink2Description: JLCPCB Part URL; ComponentLink2URL: https://jlcpcb.com/partdetail/C21120; ComponentLink3Description: LCSC Part URL; ComponentLink3URL: https://lcsc.com/product-detail/Multilayer-Ceramic-Capacitors-MLCC---SMD-SMT_Samsung-Electro-Mechanics-Samsung-Electro-Mechanics-CL10B224KA8NNNC_C21120.html; ComponentLink4Description: Samsung Component Library; ComponentLink4URL: https://weblib.samsungsem.com/mlcc/mlcc-ec.do?partNumber=CL10B224KA8NNN; Impedance (25V Bias) @ 500MHz: 0.676Ω; Impedance (25V Bias) @ 1GHz: 1.25Ω; Impedance (25V Bias) @ 5GHz: 6.58Ω
footprint CAP-0603 (0603 (1608M) Capacitor)
pins: 1, 2

## CL10B332KB8NNNC
designator C?  Capacitance: 3.3nF  (hidden comment: *)
Capacitor, Ceramic (MLCC), 3.3nF, ±10%, 50V, X7R, ±10%, SMD 0603; Manufacturer: Samsung Electro-Mechanics; Manufacturer Part Number: CL10B332KB8NNNC; Temperature Rating: -55°C ~ 125°C; Capacitance @ 1V DC Bias: 3.419nF; Capacitance @ 1.2V DC Bias: 3.421nF; Capacitance @ 1.35V DC Bias: 3.422nF; Capacitance @ 1.5V DC Bias: 3.424nF; Capacitance @ 1.8V DC Bias: 3.428nF; Capacitance @ 2.5V DC Bias: 3.437nF; Capacitance @ 3.3V DC Bias: 3.446nF; Capacitance @ 3.7V DC Bias: 3.450nF; Capacitance @ 4.2V DC Bias: 3.455nF; Capacitance @ 5V DC Bias: 3.461nF; Capacitance @ 9V DC Bias: 3.485nF; Capacitance @ 12V DC Bias: 3.488nF; Capacitance @ 15V DC Bias: 3.484nF; Capacitance @ 36V DC Bias: 3.270nF; Capacitance @ 48V DC Bias: 3.077nF; Impedance (0V Bias) @ 100Hz: 4.88E+05Ω; Impedance (0V Bias) @ 500Hz: 9.93E+04Ω; Impedance (0V Bias) @ 1kHz: 5E+04Ω; Impedance (0V Bias) @ 5kHz: 1.02E+04Ω; Impedance (0V Bias) @ 10kHz: 5.11E+03Ω; Impedance (0V Bias) @ 50kHz: 1.04E+03Ω; Impedance (0V Bias) @ 100kHz: 522Ω; Impedance (0V Bias) @ 500kHz: 106Ω; Impedance (0V Bias) @ 1MHz: 53.4Ω; Impedance (0V Bias) @ 5MHz: 10.9Ω; Impedance (0V Bias) @ 10MHz: 5.48Ω; Impedance (0V Bias) @ 50MHz: 1.01Ω; Impedance (0V Bias) @ 100MHz: 0.315Ω; Impedance (0V Bias) @ 500MHz: 1.17Ω; Impedance (0V Bias) @ 1GHz: 2.31Ω; Impedance (0V Bias) @ 2GHz: 5.99Ω; Impedance (0V Bias) @ 5GHz: 14.4Ω; Package Size: 0603; JLCPCB Basic Part: Yes; JLCPCB Part Number: C1613; Supplier 1: LCSC; Category: Capacitors - MLCC; Supplier Part Number 1: C1613; Tolerance: ±10%; Voltage Rating: 50V; Temperature Coefficient: X7R; RoHS: Yes; ComponentLink1Description: Datasheet; ComponentLink1URL: https://wmsc.lcsc.com/wmsc/upload/file/pdf/v2/lcsc/2304140030_Samsung-Electro-Mechanics-CL10B332KB8NNNC_C1613.pdf; ComponentLink2Description: JLCPCB Part URL; ComponentLink2URL: https://jlcpcb.com/partdetail/C1613; ComponentLink3Description: LCSC Part URL; ComponentLink3URL: https://lcsc.com/product-detail/Multilayer-Ceramic-Capacitors-MLCC---SMD-SMT_Samsung-Electro-Mechanics-Samsung-Electro-Mechanics-CL10B332KB8NNNC_C1613.html; ComponentLink4Description: Samsung Component Library; ComponentLink4URL: https://weblib.samsungsem.com/mlcc/mlcc-ec.do?partNumber=CL10B332KB8NNN; Capacitance @ 24V DC Bias: 3.422nF
footprint CAP-0603 (0603 (1608M) Capacitor)
pins: 1, 2

## CL10B333KB8NNNC
designator C?  Capacitance: 33nF  (hidden comment: *)
Capacitor, Ceramic (MLCC), 33nF, ±10%, 50V, X7R, ±10%, SMD 0603; Manufacturer: Samsung Electro-Mechanics; Manufacturer Part Number: CL10B333KB8NNNC; Temperature Rating: -55°C ~ 125°C; Capacitance @ 1V DC Bias: 32.568nF; Capacitance @ 1.2V DC Bias: 32.574nF; Capacitance @ 1.35V DC Bias: 32.601nF; Capacitance @ 1.5V DC Bias: 32.639nF; Capacitance @ 1.8V DC Bias: 32.736nF; Capacitance @ 2.5V DC Bias: 32.973nF; Capacitance @ 3.3V DC Bias: 33.205nF; Capacitance @ 3.7V DC Bias: 33.269nF; Capacitance @ 4.2V DC Bias: 33.287nF; Capacitance @ 5V DC Bias: 33.190nF; Capacitance @ 9V DC Bias: 32.640nF; Capacitance @ 12V DC Bias: 31.976nF; Capacitance @ 15V DC Bias: 31.196nF; Capacitance @ 24V DC Bias: 28.006nF; Capacitance @ 36V DC Bias: 22.645nF; Capacitance @ 48V DC Bias: 16.419nF; Impedance (0V Bias) @ 100Hz: 4.98E+04Ω; Impedance (0V Bias) @ 500Hz: 1.01E+04Ω; Impedance (0V Bias) @ 1kHz: 5.1E+03Ω; Impedance (0V Bias) @ 5kHz: 1.03E+03Ω; Impedance (0V Bias) @ 10kHz: 520Ω; Impedance (0V Bias) @ 50kHz: 105Ω; Impedance (0V Bias) @ 100kHz: 52.9Ω; Impedance (0V Bias) @ 500kHz: 10.7Ω; Impedance (0V Bias) @ 1MHz: 5.38Ω; Impedance (0V Bias) @ 5MHz: 1.08Ω; Impedance (0V Bias) @ 10MHz: 0.525Ω; Impedance (0V Bias) @ 50MHz: 0.0517Ω; Impedance (0V Bias) @ 100MHz: 0.207Ω; Impedance (0V Bias) @ 500MHz: 0.857Ω; Impedance (0V Bias) @ 1GHz: 1.64Ω; Impedance (0V Bias) @ 2GHz: 4.13Ω; Impedance (0V Bias) @ 5GHz: 8.72Ω; Package Size: 0603; JLCPCB Basic Part: Yes; JLCPCB Part Number: C21117; Supplier 1: LCSC; Category: Capacitors - MLCC; Supplier Part Number 1: C21117; Tolerance: ±10%; Voltage Rating: 50V; Temperature Coefficient: X7R; RoHS: Yes; ComponentLink1Description: Datasheet; ComponentLink1URL: https://wmsc.lcsc.com/wmsc/upload/file/pdf/v2/lcsc/2304140030_Samsung-Electro-Mechanics-CL10B333KB8NNNC_C21117.pdf; ComponentLink2Description: JLCPCB Part URL; ComponentLink2URL: https://jlcpcb.com/partdetail/C21117; ComponentLink3Description: LCSC Part URL; ComponentLink3URL: https://lcsc.com/product-detail/Multilayer-Ceramic-Capacitors-MLCC---SMD-SMT_Samsung-Electro-Mechanics-Samsung-Electro-Mechanics-CL10B333KB8NNNC_C21117.html; ComponentLink4Description: Samsung Component Library; ComponentLink4URL: https://weblib.samsungsem.com/mlcc/mlcc-ec.do?partNumber=CL10B333KB8NNN
footprint CAP-0603 (0603 (1608M) Capacitor)
pins: 1, 2

## CL10B473KB8NNNC
designator C?  Capacitance: 47nF  (hidden comment: *)
Capacitor, Ceramic (MLCC), 47nF, ±10%, 50V, X7R, ±10%, SMD 0603; Manufacturer: Samsung Electro-Mechanics; Manufacturer Part Number: CL10B473KB8NNNC; Temperature Rating: -55°C ~ 125°C; Capacitance @ 1V DC Bias: 47.231nF; Capacitance @ 1.2V DC Bias: 47.280nF; Capacitance @ 1.35V DC Bias: 47.319nF; Capacitance @ 1.5V DC Bias: 47.357nF; Capacitance @ 1.8V DC Bias: 47.426nF; Capacitance @ 2.5V DC Bias: 47.515nF; Capacitance @ 3.3V DC Bias: 47.532nF; Capacitance @ 3.7V DC Bias: 47.514nF; Capacitance @ 4.2V DC Bias: 47.475nF; Capacitance @ 5V DC Bias: 47.375nF; Capacitance @ 9V DC Bias: 46.446nF; Capacitance @ 12V DC Bias: 45.320nF; Capacitance @ 15V DC Bias: 44.061nF; Capacitance @ 24V DC Bias: 39.258nF; Capacitance @ 36V DC Bias: 31.412nF; Capacitance @ 48V DC Bias: 23.014nF; Impedance (0V Bias) @ 100Hz: 3.3E+04Ω; Impedance (0V Bias) @ 500Hz: 6.73E+03Ω; Impedance (0V Bias) @ 1kHz: 3.4E+03Ω; Impedance (0V Bias) @ 5kHz: 693Ω; Impedance (0V Bias) @ 10kHz: 349Ω; Impedance (0V Bias) @ 50kHz: 71.1Ω; Impedance (0V Bias) @ 100kHz: 35.7Ω; Impedance (0V Bias) @ 500kHz: 7.27Ω; Impedance (0V Bias) @ 1MHz: 3.65Ω; Impedance (0V Bias) @ 5MHz: 0.738Ω; Impedance (0V Bias) @ 10MHz: 0.364Ω; Impedance (0V Bias) @ 50MHz: 0.0607Ω; Impedance (0V Bias) @ 100MHz: 0.192Ω; Impedance (0V Bias) @ 500MHz: 0.928Ω; Impedance (0V Bias) @ 1GHz: 1.81Ω; Impedance (0V Bias) @ 2GHz: 4.68Ω; Impedance (0V Bias) @ 5GHz: 10.5Ω; Package Size: 0603; JLCPCB Basic Part: Yes; JLCPCB Part Number: C1622; Supplier 1: LCSC; Category: Capacitors - MLCC; Supplier Part Number 1: C1622; Tolerance: ±10%; Voltage Rating: 50V; Temperature Coefficient: X7R; RoHS: Yes; ComponentLink1Description: Datasheet; ComponentLink1URL: https://wmsc.lcsc.com/wmsc/upload/file/pdf/v2/lcsc/2304140030_Samsung-Electro-Mechanics-CL10B473KB8NNNC_C1622.pdf; ComponentLink2Description: JLCPCB Part URL; ComponentLink2URL: https://jlcpcb.com/partdetail/C1622; ComponentLink3Description: LCSC Part URL; ComponentLink3URL: https://lcsc.com/product-detail/Multilayer-Ceramic-Capacitors-MLCC---SMD-SMT_Samsung-Electro-Mechanics-Samsung-Electro-Mechanics-CL10B473KB8NNNC_C1622.html; ComponentLink4Description: Samsung Component Library; ComponentLink4URL: https://weblib.samsungsem.com/mlcc/mlcc-ec.do?partNumber=CL10B473KB8NNN
footprint CAP-0603 (0603 (1608M) Capacitor)
pins: 1, 2

## CL10B474KA8NNNC
designator C?  Capacitance: 470nF  (hidden comment: *)
Capacitor, Ceramic (MLCC), 470nF, ±10%, 25V, X7R, ±10%, SMD 0603; Manufacturer: Samsung Electro-Mechanics; Manufacturer Part Number: CL10B474KA8NNNC; Temperature Rating: -55°C ~ 125°C; Capacitance @ 1V DC Bias: 478.182nF; Capacitance @ 1.2V DC Bias: 478.296nF; Capacitance @ 1.35V DC Bias: 478.281nF; Capacitance @ 1.5V DC Bias: 478.153nF; Capacitance @ 1.8V DC Bias: 477.489nF; Capacitance @ 2.5V DC Bias: 472.414nF; Capacitance @ 3.3V DC Bias: 462.957nF; Capacitance @ 3.7V DC Bias: 457.410nF; Capacitance @ 4.2V DC Bias: 450.090nF; Capacitance @ 5V DC Bias: 437.532nF; Capacitance @ 9V DC Bias: 369.261nF; Capacitance @ 12V DC Bias: 317.341nF; Capacitance @ 15V DC Bias: 268.462nF; Capacitance @ 24V DC Bias: 160.798nF; Impedance (0V Bias) @ 100Hz: 3.92E+03Ω; Impedance (0V Bias) @ 500Hz: 796Ω; Impedance (0V Bias) @ 1kHz: 401Ω; Impedance (0V Bias) @ 5kHz: 81.2Ω; Impedance (0V Bias) @ 10kHz: 40.9Ω; Impedance (0V Bias) @ 50kHz: 8.29Ω; Impedance (0V Bias) @ 100kHz: 4.17Ω; Impedance (0V Bias) @ 500kHz: 0.844Ω; Impedance (0V Bias) @ 1MHz: 0.422Ω; Impedance (0V Bias) @ 5MHz: 0.0719Ω; Impedance (0V Bias) @ 10MHz: 0.0175Ω; Impedance (0V Bias) @ 50MHz: 0.0949Ω; Impedance (0V Bias) @ 100MHz: 0.17Ω; Impedance (0V Bias) @ 500MHz: 0.717Ω; Impedance (0V Bias) @ 1GHz: 1.36Ω; Impedance (0V Bias) @ 2GHz: 3.45Ω; Impedance (0V Bias) @ 5GHz: 7.51Ω; Impedance (25V Bias) @ 100Hz: 1.18E+04Ω; Impedance (25V Bias) @ 500Hz: 2.38E+03Ω; Impedance (25V Bias) @ 1kHz: 1.2E+03Ω; Impedance (25V Bias) @ 5kHz: 242Ω; Impedance (25V Bias) @ 10kHz: 121Ω; Impedance (25V Bias) @ 50kHz: 24.5Ω; Impedance (25V Bias) @ 100kHz: 12.3Ω; Impedance (25V Bias) @ 500kHz: 2.47Ω; Impedance (25V Bias) @ 1MHz: 1.22Ω; Impedance (25V Bias) @ 5MHz: 0.256Ω; Impedance (25V Bias) @ 10MHz: 0.109Ω; Impedance (25V Bias) @ 50MHz: 0.11Ω; Impedance (25V Bias) @ 100MHz: 0.171Ω; Impedance (25V Bias) @ 500MHz: 0.718Ω; Impedance (25V Bias) @ 2GHz: 3.41Ω; Impedance (25V Bias) @ 5GHz: 7.6Ω; Package Size: 0603; JLCPCB Basic Part: Yes; JLCPCB Part Number: C1623; Supplier 1: LCSC; Category: Capacitors - MLCC; Supplier Part Number 1: C1623; Tolerance: ±10%; Voltage Rating: 25V; Temperature Coefficient: X7R; RoHS: Yes; ComponentLink1Description: Datasheet; ComponentLink1URL: https://wmsc.lcsc.com/wmsc/upload/file/pdf/v2/lcsc/2304140030_Samsung-Electro-Mechanics-CL10B474KA8NNNC_C1623.pdf; ComponentLink2Description: JLCPCB Part URL; ComponentLink2URL: https://jlcpcb.com/partdetail/C1623; ComponentLink3Description: LCSC Part URL; ComponentLink3URL: https://lcsc.com/product-detail/Multilayer-Ceramic-Capacitors-MLCC---SMD-SMT_Samsung-Electro-Mechanics-Samsung-Electro-Mechanics-CL10B474KA8NNNC_C1623.html; ComponentLink4Description: Samsung Component Library; ComponentLink4URL: https://weblib.samsungsem.com/mlcc/mlcc-ec.do?partNumber=CL10B474KA8NNN; Impedance (25V Bias) @ 1GHz: 1.36Ω
footprint CAP-0603 (0603 (1608M) Capacitor)
pins: 1, 2

## CL10C100JB8NNNC
designator C?  Capacitance: 10pF  (hidden comment: *)
Capacitor, Ceramic (MLCC), 10pF, ±5%, 50V, C0G, ±5%, SMD 0603; Manufacturer: Samsung Electro-Mechanics; Manufacturer Part Number: CL10C100JB8NNNC; Temperature Rating: -55°C ~ 125°C; Impedance (0V Bias) @ 100MHz: 159Ω; Impedance (0V Bias) @ 500MHz: 30.3Ω; Impedance (0V Bias) @ 1GHz: 12.8Ω; Impedance (0V Bias) @ 2GHz: 1.36Ω; Impedance (0V Bias) @ 5GHz: 12.1Ω; Package Size: 0603; JLCPCB Basic Part: Yes; JLCPCB Part Number: C1634; Supplier 1: LCSC; Category: Capacitors - MLCC; Supplier Part Number 1: C1634; Tolerance: ±5%; Voltage Rating: 50V; Temperature Coefficient: C0G; RoHS: Yes; ComponentLink1Description: Datasheet; ComponentLink1URL: https://wmsc.lcsc.com/wmsc/upload/file/pdf/v2/lcsc/2304140030_Samsung-Electro-Mechanics-CL10C100JB8NNNC_C1634.pdf; ComponentLink2Description: JLCPCB Part URL; ComponentLink2URL: https://jlcpcb.com/partdetail/C1634; ComponentLink3Description: LCSC Part URL; ComponentLink3URL: https://lcsc.com/product-detail/Multilayer-Ceramic-Capacitors-MLCC---SMD-SMT_Samsung-Electro-Mechanics-Samsung-Electro-Mechanics-CL10C100JB8NNNC_C1634.html; ComponentLink4Description: Samsung Component Library; ComponentLink4URL: https://weblib.samsungsem.com/mlcc/mlcc-ec.do?partNumber=CL10C100JB8NNN
footprint CAP-0603 (0603 (1608M) Capacitor)
pins: 1, 2

## CL10C101JB8NNNC
designator C?  Capacitance: 100pF  (hidden comment: *)
Capacitor, Ceramic (MLCC), 100pF, ±5%, 50V, C0G, ±5%, SMD 0603; Manufacturer: Samsung Electro-Mechanics; Manufacturer Part Number: CL10C101JB8NNNC; Temperature Rating: -55°C ~ 125°C; Impedance (0V Bias) @ 100MHz: 15.6Ω; Impedance (0V Bias) @ 500MHz: 1.7Ω; Impedance (0V Bias) @ 1GHz: 1.36Ω; Impedance (0V Bias) @ 2GHz: 7.02Ω; Impedance (0V Bias) @ 5GHz: 12.9Ω; Package Size: 0603; JLCPCB Basic Part: Yes; JLCPCB Part Number: C14858; Supplier 1: LCSC; Category: Capacitors - MLCC; Supplier Part Number 1: C14858; Tolerance: ±5%; Voltage Rating: 50V; Temperature Coefficient: C0G; RoHS: Yes; ComponentLink1Description: Datasheet; ComponentLink1URL: https://wmsc.lcsc.com/wmsc/upload/file/pdf/v2/lcsc/2304140030_Samsung-Electro-Mechanics-CL10C101JB8NNNC_C14858.pdf; ComponentLink2Description: JLCPCB Part URL; ComponentLink2URL: https://jlcpcb.com/partdetail/C14858; ComponentLink3Description: LCSC Part URL; ComponentLink3URL: https://lcsc.com/product-detail/Multilayer-Ceramic-Capacitors-MLCC---SMD-SMT_Samsung-Electro-Mechanics-Samsung-Electro-Mechanics-CL10C101JB8NNNC_C14858.html; ComponentLink4Description: Samsung Component Library; ComponentLink4URL: https://weblib.samsungsem.com/mlcc/mlcc-ec.do?partNumber=CL10C101JB8NNN
footprint CAP-0603 (0603 (1608M) Capacitor)
pins: 1, 2

## CL10C120JB8NNNC
designator C?  Capacitance: 12pF  (hidden comment: *)
Capacitor, Ceramic (MLCC), 12pF, ±5%, 50V, C0G, ±5%, SMD 0603; Manufacturer: Samsung Electro-Mechanics; Manufacturer Part Number: CL10C120JB8NNNC; Temperature Rating: -55°C ~ 125°C; Impedance (0V Bias) @ 100MHz: 132Ω; Impedance (0V Bias) @ 500MHz: 25Ω; Impedance (0V Bias) @ 1GHz: 10.2Ω; Impedance (0V Bias) @ 2GHz: 2.16Ω; Impedance (0V Bias) @ 5GHz: 12.3Ω; Package Size: 0603; JLCPCB Basic Part: Yes; JLCPCB Part Number: C38523; Supplier 1: LCSC; Category: Capacitors - MLCC; Supplier Part Number 1: C38523; Tolerance: ±5%; Voltage Rating: 50V; Temperature Coefficient: C0G; RoHS: Yes; ComponentLink1Description: Datasheet; ComponentLink1URL: https://wmsc.lcsc.com/wmsc/upload/file/pdf/v2/lcsc/2304140030_Samsung-Electro-Mechanics-CL10C120JB8NNNC_C38523.pdf; ComponentLink2Description: JLCPCB Part URL; ComponentLink2URL: https://jlcpcb.com/partdetail/C38523; ComponentLink3Description: LCSC Part URL; ComponentLink3URL: https://lcsc.com/product-detail/Multilayer-Ceramic-Capacitors-MLCC---SMD-SMT_Samsung-Electro-Mechanics-Samsung-Electro-Mechanics-CL10C120JB8NNNC_C38523.html; ComponentLink4Description: Samsung Component Library; ComponentLink4URL: https://weblib.samsungsem.com/mlcc/mlcc-ec.do?partNumber=CL10C120JB8NNN
footprint CAP-0603 (0603 (1608M) Capacitor)
pins: 1, 2

## CL10C150JB8NNNC
designator C?  Capacitance: 15pF  (hidden comment: *)
Capacitor, Ceramic (MLCC), 15pF, ±5%, 50V, C0G, ±5%, SMD 0603; Manufacturer: Samsung Electro-Mechanics; Manufacturer Part Number: CL10C150JB8NNNC; Temperature Rating: -55°C ~ 125°C; Impedance (0V Bias) @ 100MHz: 106Ω; Impedance (0V Bias) @ 500MHz: 19.6Ω; Impedance (0V Bias) @ 1GHz: 7.46Ω; Impedance (0V Bias) @ 2GHz: 3.52Ω; Impedance (0V Bias) @ 5GHz: 13.7Ω; Package Size: 0603; JLCPCB Basic Part: Yes; JLCPCB Part Number: C1644; Supplier 1: LCSC; Category: Capacitors - MLCC; Supplier Part Number 1: C1644; Tolerance: ±5%; Voltage Rating: 50V; Temperature Coefficient: C0G; RoHS: Yes; ComponentLink1Description: Datasheet; ComponentLink1URL: https://wmsc.lcsc.com/wmsc/upload/file/pdf/v2/lcsc/2304140030_Samsung-Electro-Mechanics-CL10C150JB8NNNC_C1644.pdf; ComponentLink2Description: JLCPCB Part URL; ComponentLink2URL: https://jlcpcb.com/partdetail/C1644; ComponentLink3Description: LCSC Part URL; ComponentLink3URL: https://lcsc.com/product-detail/Multilayer-Ceramic-Capacitors-MLCC---SMD-SMT_Samsung-Electro-Mechanics-Samsung-Electro-Mechanics-CL10C150JB8NNNC_C1644.html; ComponentLink4Description: Samsung Component Library; ComponentLink4URL: https://weblib.samsungsem.com/mlcc/mlcc-ec.do?partNumber=CL10C150JB8NNN
footprint CAP-0603 (0603 (1608M) Capacitor)
pins: 1, 2

## CL10C180JB8NNNC
designator C?  Capacitance: 18pF  (hidden comment: *)
Capacitor, Ceramic (MLCC), 18pF, ±5%, 50V, C0G, ±5%, SMD 0603; Manufacturer: Samsung Electro-Mechanics; Manufacturer Part Number: CL10C180JB8NNNC; Temperature Rating: -55°C ~ 125°C; Impedance (0V Bias) @ 100MHz: 88.1Ω; Impedance (0V Bias) @ 500MHz: 16.1Ω; Impedance (0V Bias) @ 1GHz: 5.68Ω; Impedance (0V Bias) @ 2GHz: 4.25Ω; Impedance (0V Bias) @ 5GHz: 14.2Ω; Package Size: 0603; JLCPCB Basic Part: Yes; JLCPCB Part Number: C1647; Supplier 1: LCSC; Category: Capacitors - MLCC; Supplier Part Number 1: C1647; Tolerance: ±5%; Voltage Rating: 50V; Temperature Coefficient: C0G; RoHS: Yes; ComponentLink1Description: Datasheet; ComponentLink1URL: https://wmsc.lcsc.com/wmsc/upload/file/pdf/v2/lcsc/2304140030_Samsung-Electro-Mechanics-CL10C180JB8NNNC_C1647.pdf; ComponentLink2Description: JLCPCB Part URL; ComponentLink2URL: https://jlcpcb.com/partdetail/C1647; ComponentLink3Description: LCSC Part URL; ComponentLink3URL: https://lcsc.com/product-detail/Multilayer-Ceramic-Capacitors-MLCC---SMD-SMT_Samsung-Electro-Mechanics-Samsung-Electro-Mechanics-CL10C180JB8NNNC_C1647.html; ComponentLink4Description: Samsung Component Library; ComponentLink4URL: https://weblib.samsungsem.com/mlcc/mlcc-ec.do?partNumber=CL10C180JB8NNN
footprint CAP-0603 (0603 (1608M) Capacitor)
pins: 1, 2

## CL10C200JB8NNNC
designator C?  Capacitance: 20pF  (hidden comment: *)
Capacitor, Ceramic (MLCC), 20pF, ±5%, 50V, C0G, ±5%, SMD 0603; Manufacturer: Samsung Electro-Mechanics; Manufacturer Part Number: CL10C200JB8NNNC; Temperature Rating: -55°C ~ 125°C; Impedance (0V Bias) @ 100MHz: 79.3Ω; Impedance (0V Bias) @ 500MHz: 14.4Ω; Impedance (0V Bias) @ 1GHz: 5.02Ω; Impedance (0V Bias) @ 2GHz: 4.03Ω; Impedance (0V Bias) @ 5GHz: 13.8Ω; Package Size: 0603; JLCPCB Basic Part: Yes; JLCPCB Part Number: C1648; Supplier 1: LCSC; Category: Capacitors - MLCC; Supplier Part Number 1: C1648; Tolerance: ±5%; Voltage Rating: 50V; Temperature Coefficient: C0G; RoHS: Yes; ComponentLink1Description: Datasheet; ComponentLink1URL: https://wmsc.lcsc.com/wmsc/upload/file/pdf/v2/lcsc/2304140030_Samsung-Electro-Mechanics-CL10C200JB8NNNC_C1648.pdf; ComponentLink2Description: JLCPCB Part URL; ComponentLink2URL: https://jlcpcb.com/partdetail/C1648; ComponentLink3Description: LCSC Part URL; ComponentLink3URL: https://lcsc.com/product-detail/Multilayer-Ceramic-Capacitors-MLCC---SMD-SMT_Samsung-Electro-Mechanics-Samsung-Electro-Mechanics-CL10C200JB8NNNC_C1648.html; ComponentLink4Description: Samsung Component Library; ComponentLink4URL: https://weblib.samsungsem.com/mlcc/mlcc-ec.do?partNumber=CL10C200JB8NNN
footprint CAP-0603 (0603 (1608M) Capacitor)
pins: 1, 2